# Altium schematic symbol library NanoFit4pos.SchLib: 1 symbol
Pins are listed as number, name and electrical type; pins without a type are passive.

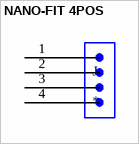
[diagram p0: symbol NANO-FIT 4POS]

## NANO-FIT 4POS
designator J
105313-1204
footprint NANOFIT4POS
pins: 1, 2, 3, 4